# Altium integrated library BQ24192.IntLib: 1 symbol
Pins are listed as number, name and electrical type; pins without a type are passive.

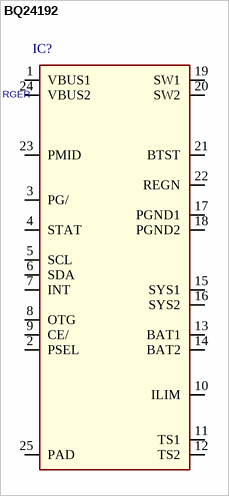
[diagram p0: symbol BQ24192]

## BQ24192
designator IC?, comment BQ24192RGER
ID: BQ24192RGER; PDF: http://www.ti.com/lit/ds/symlink/bq24192i.pdf; BUY_LINK: http://www.digikey.com/product-detail/en/texas-instruments/BQ24192RGER/296-35054-1-ND/3725777; PRICE: 6.48000
footprint QFN24-4X4-0.5/A
pins: 1 VBUS1, 2 PSEL, 3 PG/, 4 STAT, 5 SCL, 6 SDA, 7 INT, 8 OTG, 9 CE/, 10 ILIM, 11 TS1, 12 TS2, 13 BAT1, 14 BAT2, 15 SYS1, 16 SYS2, 17 PGND1, 18 PGND2, 19 SW1, 20 SW2, 21 BTST, 22 REGN, 23 PMID, 24 VBUS2, 25 PAD